# Altium integrated library diodes.IntLib: 24 symbols
Pins are listed as number, name and electrical type; pins without a type are passive.

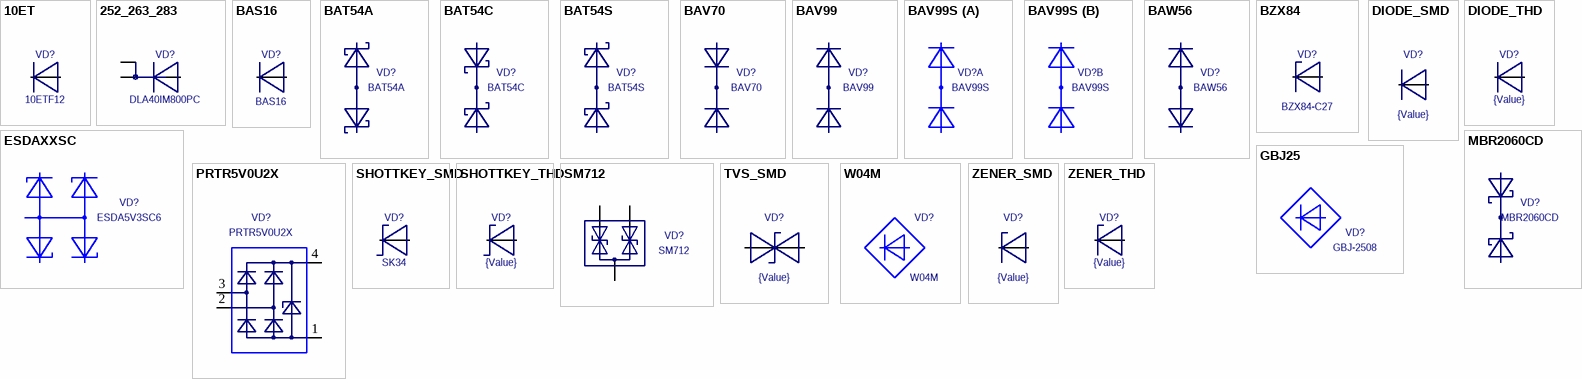
[diagram p0: symbols 10ET to ZENER_THD]

## 10ET
designator VD?, comment 10ETF12
DIODE TO-247/220; Value: 10ETF12
footprint TO-220-2V
footprint TO247-2V
pins: 1 C, 3 A

## 252_263_283
designator VD?, comment DLA40IM800PC
Diode TO252,263,283; Value: DLA40IM800PC
footprint TO-252-3
footprint TO-263-3
footprint TO-268-3
pins: 1 C, 2 C, 3 A

## BAS16
designator VD?
Value: BAS16
footprint SOT-23
pins: 1 A, 2 hidden, 3 C

## BAT54A
designator VD?
2 shottky common ANODE; Value: BAT54A
footprint SOT-23
pins: 1 C1, 2 C2, 3 COM

## BAT54C
designator VD?
2 shottky common CATHODE; Value: BAT54C
footprint SOT-23
pins: 1 A1, 2 A2, 3 COM

## BAT54S
designator VD?
2 serial shottky; Value: BAT54S
footprint SOT-23
pins: 1 A, 2 C, 3 COM

## BAV70
designator VD?
2 diodes, com. CATHODE; Value: BAV70
footprint SOT-23
pins: 1 A1, 2 A2, 3 CC

## BAV99
designator VD?
2 serial diodes; Value: BAV99
footprint SOT-23
pins: 1 A, 2 C, 3 COM

## BAV99S
designator VD?
4 diodes; Value: BAV99S
footprint SC-70-6
part A pins: 1 A, 2 C, 6 COM
part B pins: 3 COM, 4 A, 5 C

## BAW56
designator VD?
2 diodes, com. ANODE; Value: BAW56
footprint SOT-23
pins: 1 C1, 2 C2, 3 CA

## BZX84
designator VD?, comment BZX84-C27
Zener SOT-23; Value: BZX84-C27
footprint SOT-23
pins: 1 A, 2 hidden, 3 C

## DIODE_SMD
designator VD?, comment {Value}
DIODE_SMD; Value: {Value}
footprint DO-213AA/SOD-80/miniMELF
footprint DO-213AB/MELF
footprint DO-213AC
footprint DO-214AA/SMB
footprint DO-214AB/SMC
footprint DO-214AC/SMA
footprint DO-214BA
footprint DO-215AA
footprint DO-215AB
footprint DO-215AC
footprint DO-215BA
footprint ERSM/P1-11
footprint SOD-123
footprint SOD-323
footprint SOD-882 (DFN1006-2)
pins: 1 C, 2 A

## DIODE_THD
designator VD?, comment {Value}
DIODE_THD; Value: {Value}
footprint A12X
footprint A12XV
footprint A15X
footprint A10X
pins: 1 C, 2 A

## ESDAXXSC
designator VD?  value ESDA5V3SC6  (hidden comment: ESDAXXSC)
Quad TVS protection
footprint SOT-23-6
pins: 1 C, 2 CA, 3 C, 4 C, 5 hidden, 6 C

## GBJ25
designator VD?, comment GBJ-2508
Bridge 10-30A; Value: GBJ-2508
footprint GBJ
pins: 1 DC+, 2 AC, 3 AC, 4 DC-

## MBR2060CD
designator VD?
2 shottky common CATHODE TO252/263; Value: MBR2060CD
footprint TO-252-3
footprint TO-263-3
pins: 1 A1, 2 COM, 3 A2

## PRTR5V0U2X
designator VD?
USB2.0 protection; Value: PRTR5V0U2X
footprint SOT-143B
pins: 1 GND, 2 LINE, 3 LINE, 4 VCC

## SHOTTKEY_SMD
designator VD?, comment SK34
SHOTTKEY_SMD; Value: SK34
footprint DO-213AA/SOD-80/miniMELF
footprint DO-213AB/MELF
footprint DO-213AC
footprint DO-214AA/SMB
footprint DO-214AB/SMC
footprint DO-214AC/SMA
footprint DO-214BA
footprint DO-215AA
footprint DO-215AB
footprint DO-215AC
footprint DO-215BA
footprint ERSM/P1-11
footprint SOD-123
footprint SOD-323
footprint SOD-882 (DFN1006-2)
pins: 1 C, 2 A

## SHOTTKEY_THD
designator VD?, comment {Value}
SHOTTKEY_THD; Value: {Value}
footprint A12X
footprint A12XV
footprint A15X
footprint A10X
pins: 1 C, 2 A

## SM712
designator VD?
2 bidir. TVS; Value: SM712
footprint SOT-23
pins: 1 C1, 2 C2, 3 COM

## TVS_SMD
designator VD?, comment {Value}
Bidirectional Zener; Value: {Value}
footprint DO-213AA/SOD-80/miniMELF
footprint DO-213AB/MELF
footprint DO-213AC
footprint DO-214AA/SMB
footprint DO-214AB/SMC
footprint DO-214AC/SMA
footprint DO-214BA
footprint DO-215AA
footprint DO-215AB
footprint DO-215AC
footprint DO-215BA
footprint ERSM/P1-11
footprint SOD-123
footprint SOD-323
footprint SOD-882 (DFN1006-2)
pins: 1 C, 2 A

## W04M
designator VD?
Bridge 1-3A; Value: W04M
footprint W04M
pins: 1 DC+, 2 AC, 3 DC-, 4 AC

## ZENER_SMD
designator VD?, comment {Value}
Zener; Value: {Value}
footprint DO-213AA/SOD-80/miniMELF
footprint DO-213AB/MELF
footprint DO-213AC
footprint DO-214AA/SMB
footprint DO-214AB/SMC
footprint DO-214AC/SMA
footprint DO-214BA
footprint DO-215AA
footprint DO-215AB
footprint DO-215AC
footprint DO-215BA
footprint ERSM/P1-11
footprint SOD-123
footprint SOD-323
footprint SOD-882 (DFN1006-2)
pins: 1 C, 2 A

## ZENER_THD
designator VD?, comment {Value}
ZENER_THD; Value: {Value}
footprint A12X
footprint A10X
footprint A12XV
footprint A15X
pins: 1 C, 2 A